# EAGLE library part TPS61170 (library act-global-nolan)
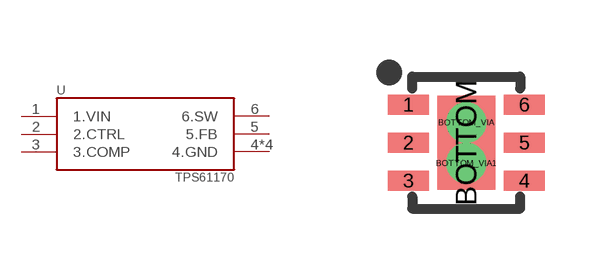
[diagram p1: symbol with the pads of WSON-6; footprint WSON-6]

Designator prefix -

## TPS61170  [WSON-6]
1  1.VIN
2  2.CTRL
3  3.COMP
4  4.GND
5  5.FB
6  6.SW
BOTTOM  4.GND
BOTTOM_VIA  4.GND
BOTTOM_VIA1  4.GND

## Footprint WSON-6 (pad centres in mm)
smd 1.016 x 0.508: 1 -0.5,0; 2 -0.5,-0.95; 3 -0.5,-1.9; 4 2.4,-1.9; 5 2.4,-0.95; 6 2.4,0
smd 1.45 x 2.35: BOTTOM 0.95,-0.95
drill 0.5: BOTTOM_VIA 0.95,-0.442; BOTTOM_VIA1 0.95,-1.458